# Altium schematic symbol library MAX14866UTM+.SchLib: 1 symbol
Pins are listed as number, name and electrical type; pins without a type are passive.

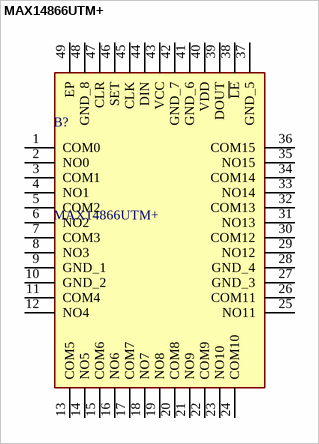
[diagram p0: symbol MAX14866UTM+]

## MAX14866UTM+
designator B?
MAXIM INTEGRATED PRODUCTS - MAX14866UTM+ - ANALOGUE SWITCH, 16 CH, SPST, TQFN-16; Manufacturer_Name: Analog Devices; Geometry.Height: 0.8mm; Manufacturer_Part_Number: MAX14866UTM+; Mouser Part Number: 700-MAX14866UTM+; Mouser Price/Stock: https://www.mouser.co.uk/ProductDetail/Analog-Devices-Maxim-Integrated/MAX14866UTM%2b?qs=1mbolxNpo8f6nC88ZZmOdg%3D%3D; Arrow Part Number: MAX14866UTM+; Arrow Price/Stock: https://www.arrow.com/en/products/max14866utm/analog-devices?utm_currency=USD&region=nac; Datasheet Link: https://www.mouser.com/datasheet/2/256/MAX14866-1154497.pdf
footprint QFN50P700X700X80-49N
pins: 1 COM0, 2 NO0, 3 COM1, 4 NO1, 5 COM2, 6 NO2, 7 COM3, 8 NO3, 9 GND_1, 10 GND_2, 11 COM4, 12 NO4, 13 COM5, 14 NO5, 15 COM6, 16 NO6, 17 COM7, 18 NO7, 19 NO8, 20 COM8, 21 NO9, 22 COM9, 23 NO10, 24 COM10, 25 NO11, 26 COM11, 27 GND_3, 28 GND_4, 29 NO12, 30 COM12, 31 NO13, 32 COM13, 33 NO14, 34 COM14, 35 NO15, 36 COM15, 37 GND_5, 38 ~{LE}, 39 DOUT, 40 VDD, 41 GND_6, 42 GND_7, 43 VCC, 44 DIN, 45 CLK, 46 SET, 47 CLR, 48 GND_8, 49 EP